# EAGLE library part 61201021721 (library Wire-to-Board (rev18a))
WR-BHD 2.54mm Male Angled Box Header, 10 Pins=>Code : Con_WTB_BHD_2.54_Male_THT_WS_61201021721 <http://katalog.we-online.de/media/thumbs2/eican/thb_Con_WTB_BHD_2.54_Male_THT_WS_6120xx21721_pf2.jpg> Details see: http://katalog.we-online.de/en/em/612_0xx_217_21 Created 2014-06-05, Karrer Zheng 2014 (C) Würth Elektronik
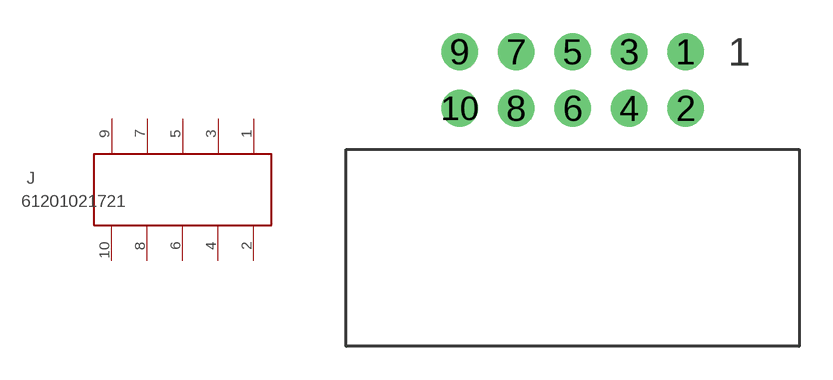
[diagram p122: symbol with the pads of 61201021721; footprint 61201021721]

Designator prefix J

## 61201021721  [61201021721]
1  10  pas
2  9  pas
3  8  pas
4  7  pas
5  6  pas
6  5  pas
7  4  pas
8  3  pas
9  2  pas
10  1  pas

## Footprint 61201021721 (pad centres in mm)
WR-BHD 2.54mm Male Angled Box Header, 10 Pins
drill 1.1: 1 5.08,1.27; 2 5.08,-1.27; 3 2.54,1.27; 4 2.54,-1.27; 5 0,1.27; 6 0,-1.27; 7 -2.54,1.27; 8 -2.54,-1.27; 9 -5.08,1.27; 10 -5.08,-1.27